# Altium schematic symbol library Smart_Podium.SchLib: 42 symbols
Pins are listed as number, name and electrical type; pins without a type are passive.

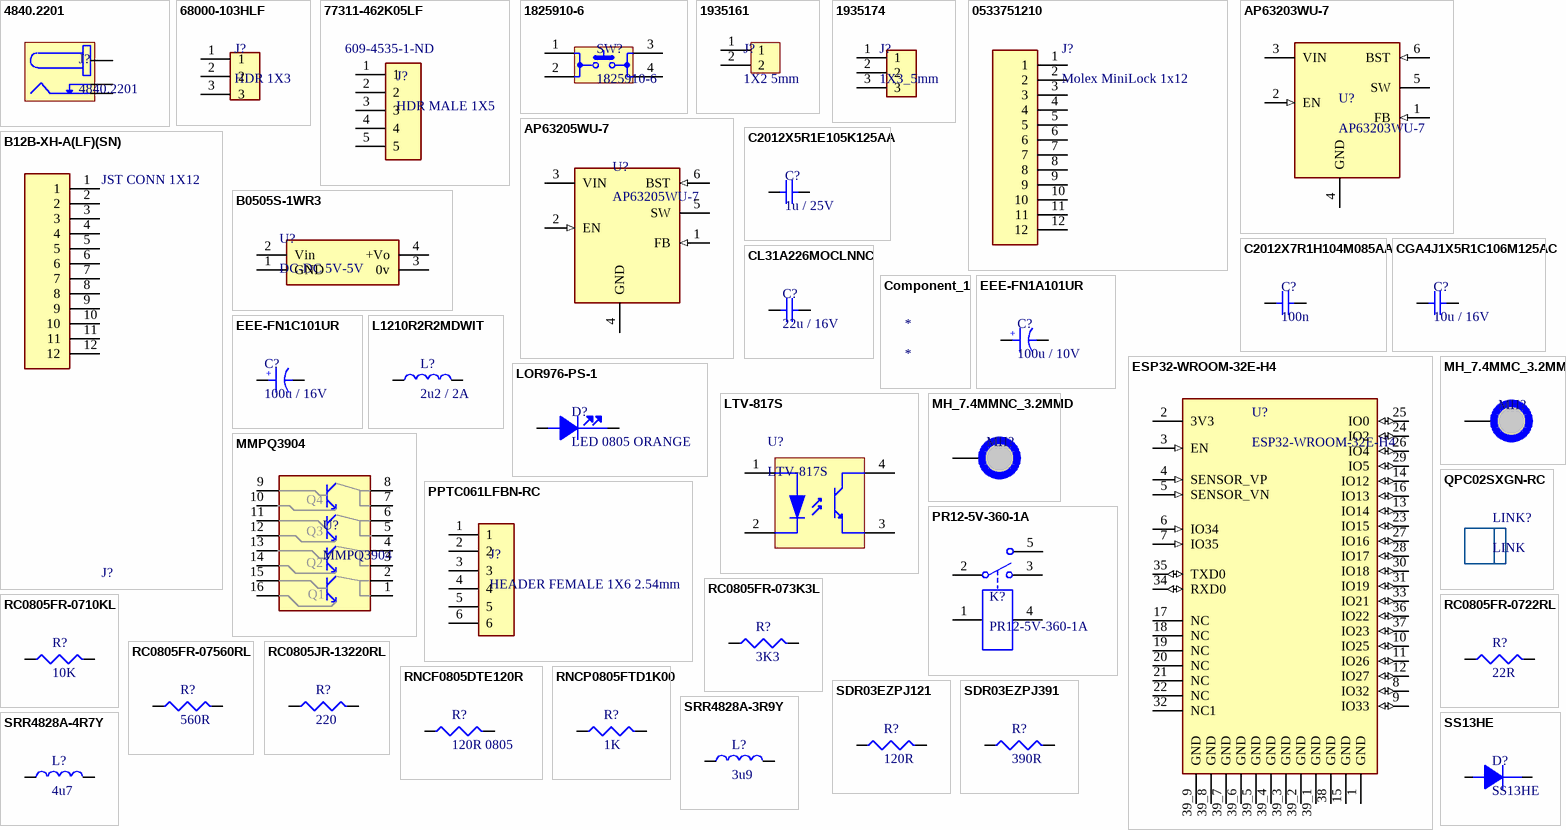
[diagram p0: symbols 4840.2201 to SS13HE]

## 4840.2201
designator J?
DC Connector Socket 6x2mm 2-Pole 12VDC 0.5A 500VDC Dielectric Solder Term PCB Mt; Manufacturer: Schurter; Number of Terminals/Pins: 3; Gender: Male; Shielding: Unshielded; Current Rating: 500mA; Voltage Rating: 12V; Number of Ports: 1; Connector Type: Jack; Pin Diameter: 2mm; Supplier 1: Digi-Key; Manufacturer Part Number: 4840.2201; RoHS: Yes; Category: Connectors; Stock 1: 9153; Pricing 1: 1=1.82000, 50=1.67900, 100=1.41120 (USD); Mounting Technology: Through Hole; Color: Black; Contact Material: Copper Alloy; Housing Material: PC; Weight: 0.007125oz; Contact Plating: Tin; Housing Color: Black; Termination: Solder; Number of Contacts: 3; Orientation: Right Angle; Package Quantity: 500; Series: 4840; Length: 9mm; Width: 9mm; Depth: 14.5mm; Radiation Hardening: No; Lead Free: Lead Free; RoHS Compliant: Yes; ComponentLink1URL: https://datasheet.ciiva.com/26837/getdatasheetpartid-572408-26837414.pdf?src-supplier=Verical; ComponentLink1Description: https://datasheet.ciiva.com/26837/getdatasheetpartid-572408-26837414.pdf?src-supplier=Verical; ComponentLink2URL: https://datasheet.ciiva.com/16318/typ-4840-1200-16318967.pdf?src-supplier=Future+Electronics; ComponentLink2Description: https://datasheet.ciiva.com/16318/typ-4840-1200-16318967.pdf?src-supplier=Future+Electronics; ComponentLink3URL: https://datasheet.ciiva.com/12342/typ-4840-2201-65401-12342879.pdf?src-supplier=Mouser; ComponentLink3Description: https://datasheet.ciiva.com/12342/typ-4840-2201-65401-12342879.pdf?src-supplier=Mouser; ComponentLink4URL: https://datasheet.ciiva.com/391/typ-4840-2201-391834.pdf?src-supplier=Digi-Key; ComponentLink4Description: https://datasheet.ciiva.com/391/typ-4840-2201-391834.pdf?src-supplier=Digi-Key; Supplier Part Number 1: 486-3381-ND
footprint DC_JACK
pins: 1, 2, 3

## 68000-103HLF
designator J?, comment HDR 1X3
Conn Unshrouded Header HDR 3 POS 2.54mm Solder ST Top Entry Thru-Hole BergStik® Automotive Bulk; Manufacturer: Amphenol ICC / FCI; Manufacturer Part Number: 68000-103HLF; Supplier 1: Digi-Key; RoHS: No; Category: Headers and Wire Housings; ComponentLink1URL: https://datasheet.ciiva.com/46392/1914865-46392021.pdf?src-supplier=Element14; ComponentLink1Description: https://datasheet.ciiva.com/46392/1914865-46392021.pdf?src-supplier=Element14; Supplier Part Number 1: 609-3461-ND
footprint HDR_1x3_2.54mm
pins: 1, 2, 3

## 77311-462K05LF
designator J?, comment HDR MALE 1X5  Supplier Part Number 1: 609-4535-1-ND
Conn Header Vert 5POS 2.54MM; Manufacturer: Amphenol Communications Solutions; Manufacturer Part Number: 77311-462K05LF; Supplier 1: Digi-Key; RoHS: No; Category: Connectors; Stock 1: 5335; Pricing 1: 1=1.00000, 10=0.84300, 100=0.75660, 500=0.61902 (USD)
footprint Header_Male_1x5_2.54mm
pins: 1, 2, 3, 4, 5

## 1825910-6
designator SW?
Switch Tactile OFF (ON) SPST Round Button PC Pins 0.05A 24VDC 1.57N Thru-Hole Loose; Manufacturer: TE Connectivity Alcoswitch; Mechanical Life: 100000Cycles; Actuator Material: PBT; Actuator Color: Black; Operating Force: 160gf; Max Voltage Rating (DC): 24V; Contact Resistance: 100mR; Illumination Type: Non-Illuminated,Illuminated; Switch Travel: 0.25mm; Contact Current Rating: 50mA; Switch Function: Off-Mom; Actuator Type: Standard; Actuator Length: 0.055inch; Supplier 1: Digi-Key; Manufacturer Part Number: 1825910-6; RoHS: Yes; Category: Pushbutton Switches; Stock 1: 112137; Pricing 1: 1=0.13000, 10=0.12500, 25=0.11840, 100=0.10780, 250=0.10132, 750=0.09268, 1500=0.07759, 3000=0.07544, 5250=0.07113 (USD); Mount: Through Hole; Contact Material: Copper Alloy; Contact Plating: Silver; Min Operating Temperature: -35°C; Max Operating Temperature: 85°C; Throw Configuration: SPST; Package Quantity: 750; Packaging: Loose Piece; Termination: PC Pins; Electrical Life: 100000Cycles; Orientation: Straight; Type: Switch; Series: FSMJ; Max Current Rating: 50mA; Length: 5.99mm; RoHS Compliant: Yes; ELV: Compliant; Lead Free: Lead Free; ComponentLink1URL: https://datasheet.ciiva.com/30199/1825910-6rqpn1825910-6-30199520.pdf?src-supplier=Onlinecomponents.com; ComponentLink1Description: https://datasheet.ciiva.com/30199/1825910-6rqpn1825910-6-30199520.pdf?src-supplier=Onlinecomponents.com; ComponentLink2URL: https://datasheet.ciiva.com/15184/getdatasheetpartid-395915-15184509.pdf?src-supplier=Verical; ComponentLink2Description: https://datasheet.ciiva.com/15184/getdatasheetpartid-395915-15184509.pdf?src-supplier=Verical; Supplier Part Number 1: 450-1650-ND
footprint 1825910-6
pins: 1, 2, 3, 4

## 1935161
designator J?, comment 1X2 5mm
Conn PC Terminal Block 2 POS 5mm Solder ST Thru-Hole 17.5A; Manufacturer: Phoenix Contact; Manufacturer Part Number: 1935161; Number of Contacts: 2; Max Current Rating: 16A; Max Supply Voltage: 250V; Number of Levels: 1; Current: 18A; Voltage: 300V; Voltage Rating (DC): 320V; Connector Type: Screw; Wire/Cable Gauge: 26AWG; Wire Gauge (Min): 12AWG; Approvals: UL; Supplier 1: Digi-Key; RoHS: Yes; Category: Terminal Blocks; Stock 1: 237293; Pricing 1: 1=0.54000, 10=0.47200, 50=0.45100, 100=0.43870, 250=0.41000, 500=0.37720, 1000=0.36550 (USD); Mounting Technology: Through Hole; Pins: 2; Contact Material: Copper,Tin; Housing Material: Polyamide; Color: Green; Weight: 0.067021oz; Material: Nylon; Housing Color: Green; Insulation Material: Nylon; Current Rating: 17.5A; Number of Rows: 1; Termination: Solder; Orientation: Straight; Voltage Rating: 250V; Package Quantity: 250; Packaging: Bulk; Number of Poles: 2; Number of Positions: 2; Number of Positions Per Level: 2; Number of Circuits: 2; Series: COMBICON PT; Number of Ways: 2; Length: 9mm; Width: 14.9mm; Height: 11.3mm; Wire Gauge (Max): 26AWG; Depth: 9mm; Pitch: 5mm; Radiation Hardening: No; RoHS Compliant: Yes; Lead Free: Lead Free; Flammability Rating: UL94 V-0; ComponentLink1URL: https://datasheet.ciiva.com/16047/1935161-16047247.pdf?src-supplier=Onlinecomponents.com; ComponentLink1Description: https://datasheet.ciiva.com/16047/1935161-16047247.pdf?src-supplier=Onlinecomponents.com; ComponentLink2URL: https://datasheet.ciiva.com/15169/getdatasheetpartid-177903-15169663.pdf?src-supplier=Verical; ComponentLink2Description: https://datasheet.ciiva.com/15169/getdatasheetpartid-177903-15169663.pdf?src-supplier=Verical; ComponentLink3URL: https://datasheet.ciiva.com/824/combiconcompact5-0mmseries-824222.pdf?src-supplier=Digi-Key; ComponentLink3Description: https://datasheet.ciiva.com/824/combiconcompact5-0mmseries-824222.pdf?src-supplier=Digi-Key; Supplier Part Number 1: 277-1667-ND
footprint SCREW_CONN_5MM
pins: 1, 2

## 1935174
designator J?, comment 1X3_5mm
Terminal Block Header 3 Position Top Screw 0.197" (5.00mm) PC Pins; Manufacturer: Phoenix Contact; Manufacturer Part Number: 1935174; Number of Contacts: 3; Max Current Rating: 16A; Voltage Rating: 250V; Current Rating: 17.5A; Number of Levels: 1; Current: 18A; Voltage: 300V; Voltage Rating (DC): 320V; Wire Gauge (Max): 26AWG; Wire Gauge (Min): 12AWG; Pitch: 5mm; Approvals: UL,VDE,CB,EAC; Supplier 1: Digi-Key; RoHS: Yes; Category: Terminal Blocks; Stock 1: 144266; Pricing 1: 1=0.75000, 10=0.65600, 50=0.62700, 100=0.60990, 250=0.57000, 500=0.52440, 1000=0.51000 (USD); Mount: Through Hole; Number of Pins: 3; Contact Material: Copper,Tin; Color: Green; Housing Material: Polyamide; Weight: 0.100531oz; Material: Nylon; Housing Color: Green; Insulation Material: Nylon; Termination: Solder; Packaging: Bulk; Number of Rows: 1; Max Supply Voltage: 250V; Number of Positions: 3; Orientation: Straight; Series: COMBICON PT; Package Quantity: 250; Number of Poles: 3; Number of Positions Per Level: 3; Number of Circuits: 3; Number of Ways: 3; Length: 9mm; Width: 15mm; Height: 11.3mm; Depth: 9mm; Wire/Cable Gauge: 26AWG; Stripping Length: 5mm; Radiation Hardening: No; RoHS Compliant: Yes; Lead Free: Lead Free; Flammability Rating: UL94 V-0; ComponentLink1URL: https://datasheet.ciiva.com/16047/1935174-16047249.pdf?src-supplier=Onlinecomponents.com; ComponentLink1Description: https://datasheet.ciiva.com/16047/1935174-16047249.pdf?src-supplier=Onlinecomponents.com; ComponentLink2URL: https://datasheet.ciiva.com/15169/getdatasheetpartid-212213-15169949.pdf?src-supplier=Verical; ComponentLink2Description: https://datasheet.ciiva.com/15169/getdatasheetpartid-212213-15169949.pdf?src-supplier=Verical; ComponentLink3URL: https://datasheet.ciiva.com/823/combiconcompact5-0mmseries-823761.pdf?src-supplier=Digi-Key; ComponentLink3Description: https://datasheet.ciiva.com/823/combiconcompact5-0mmseries-823761.pdf?src-supplier=Digi-Key; ComponentLink4URL: https://datasheet.ciiva.com/29218/744167-da-01-en-printklemme-pt-1-5-3-5-0-h-29218252.pdf?src-supplier=Conrad; ComponentLink4Description: https://datasheet.ciiva.com/29218/744167-da-01-en-printklemme-pt-1-5-3-5-0-h-29218252.pdf?src-supplier=Conrad; Supplier Part Number 1: 277-1578-ND
footprint SSCREW_CONN_5MM_1X3
pins: 1, 2, 3

## 0533751210
designator J?, comment Molex MiniLock 1x12
2.50mm Pitch Mini-Lock Wire-to-Board Header Vertical Friction and Positive Lock 12 Circuits; Manufacturer Part Number: 0533751210; Supplier 1: Digi-Key; Manufacturer: Molex; RoHS: Yes; Category: Uncategorized; Stock 1: 46833; Pricing 1: 1=0.91000, 10=0.75100, 100=0.62620, 1000=0.50096, 5000=0.43834, 10000=0.41642 (USD); ComponentLink1URL: https://datasheet.ciiva.com/2943/533750310-sd-2943383.pdf?src-supplier=Digi-Key; ComponentLink1Description: https://datasheet.ciiva.com/2943/533750310-sd-2943383.pdf?src-supplier=Digi-Key
footprint MOLEX-MINILOCK-12X1-2.5MM
pins: 1, 2, 3, 4, 5, 6, 7, 8, 9, 10, 11, 12

## AP63203WU-7
designator U?
AP63203 Series 3.3 V 2 A SMT Fixed Low IQ Synchronous Buck - TSOT-26; Manufacturer: Diodes; Supplier 1: Digi-Key; Manufacturer Part Number: AP63203WU-7; RoHS: Yes; Category: Voltage Regulators - Switching; Stock 1: 45437; Pricing 1: 1=0.91000, 10=0.79900, 25=0.75040, 100=0.61250, 250=0.56896, 500=0.48420, 1000=0.38737 (USD); Supplier Part Number 1: AP63203WU-7DICT-ND
footprint FP-TSOT26-MFG
pins: 1 FB (in), 2 EN (in), 3 VIN (power), 4 GND (power), 5 SW (power), 6 BST (in)

## AP63205WU-7
designator U?
AP63205 Series 32 V 2 A 1.1 MHz Synchronous Buck Converter -TSOT-26; Manufacturer: Diodes; Supplier 1: Digi-Key; Manufacturer Part Number: AP63205WU-7; RoHS: Yes; Category: Voltage Regulators - Switching; Stock 1: 147466; Pricing 1: 1=0.91000, 10=0.79900, 25=0.75040, 100=0.61250, 250=0.56896, 500=0.48420, 1000=0.38737 (USD); Supplier Part Number 1: AP63205WU-7DIDKR-ND
footprint FP-TSOT26-MFG
pins: 1 FB (in), 2 EN (in), 3 VIN (power), 4 GND (power), 5 SW (power), 6 BST (in)

## B12B-XH-A(LF)(SN)
designator J?, comment JST CONN 1X12
CONN HEADER VERT 12POS 2.5MM; Manufacturer Part Number: B12B-XH-A(LF)(SN); Mated Stacking Heights: 9.8mm; Voltage Rating: 250V; Number of Positions: 12; Flammability Rating: UL94 V-0; Fastening Type: Detent; Contact Type: Male Pin; Insulation Color: Natural; Contact Material: Brass; Min Operating Temperature: -25°C; Contact Shape: Square; Height: 0.5inch; Connector Type: Header; Max Operating Temperature: 85°C; Number of Rows: 1; Series: XH; Insulation Material: Nylon; Contact Finish - Mating: TIN; Mount: Through Hole; Width: 0.5inch; Weight: 0.0625lb; Termination: Press-Fit; Length: 1.5inch; Packaging: Bulk
footprint FP-B12B-XH-A_LF_SN-MFG
pins: 1, 2, 3, 4, 5, 6, 7, 8, 9, 10, 11, 12

## B0505S-1WR3
designator U?, comment DC-DC 5V-5V
1W, i/p: 4.5V ~ 5.5V, single o/p: 5V, SIP; Manufacturer: MORNSUN; Manufacturer Part Number: B0505S-1WR3; Supplier 1: Digi-Key; RoHS: Yes; Category: Board Mount Modules; Stock 1: 49202; Pricing 1: 1=5.23000, 5=5.15200, 10=5.07800, 25=4.92840, 50=4.77900, 100=4.62970, 250=4.48032, 500=4.18162 (USD); Supplier Part Number 1: 2725-B0505S-1WR3-ND
footprint DC-DC isolator 1x4 pins
pins: 1 GND, 2 Vin, 3 0v, 4 +Vo

## C2012X5R1E105K125AA
designator C?, comment 1u / 25V
CAP CER 1UF 25V X5R 0805; Manufacturer: TDK; Manufacturer Part Number: C2012X5R1E105K125AA; Dielectric Material: Ceramic; Tolerance: 10%; Supplier 1: Digi-Key; RoHS: Yes; Category: Ceramic Capacitors; Stock 1: 84647; Pricing 1: 1=0.21000, 10=0.14500, 50=0.08720, 100=0.07370, 500=0.05042, 1000=0.04460 (USD); Mount: Surface Mount; Case/Package: 0805; Number of Pins: 2; Case Code (Metric): 2012; Case Code (Imperial): 0805; Weight: 0.000194oz; Min Operating Temperature: -55°C; Max Operating Temperature: 85°C; Capacitance: 1uF; Voltage Rating: 25V; Packaging: Tape and Reel; Voltage Rating (DC): 25V; Dielectric: X5R; Termination: SMD/SMT; Construction: Flat; Package Quantity: 2000; Resistor Type: Ceramic; Voltage: 25V; Series: C; Length: 2mm; Width: 0.049inch; Height: 1.25mm; Depth: 1.25mm; Thickness: 0.057inch; Radiation Hardening: No; Lead Free: Lead Free; RoHS Compliant: Yes; Reach SVHC Compliant: Yes; ComponentLink1URL: https://datasheet.ciiva.com/11787/0900766b80c1bb00-11787608.pdf?src-supplier=RSComponents; ComponentLink1Description: https://datasheet.ciiva.com/11787/0900766b80c1bb00-11787608.pdf?src-supplier=RSComponents; ComponentLink2URL: https://datasheet.ciiva.com/16449/e412-c-16449595.pdf?src-supplier=Future+Electronics; ComponentLink2Description: https://datasheet.ciiva.com/16449/e412-c-16449595.pdf?src-supplier=Future+Electronics; ComponentLink3URL: https://datasheet.ciiva.com/28602/1744655-28602171.pdf?src-supplier=Element14; ComponentLink3Description: https://datasheet.ciiva.com/28602/1744655-28602171.pdf?src-supplier=Element14; ComponentLink4URL: https://datasheet.ciiva.com/15192/getdatasheetpartid-726707-15192140.pdf?src-supplier=Verical; ComponentLink4Description: https://datasheet.ciiva.com/15192/getdatasheetpartid-726707-15192140.pdf?src-supplier=Verical; Supplier Part Number 1: 445-1419-1-ND
footprint C0805
pins: 1, 2

## C2012X7R1H104M085AA
designator C?, comment 100n
C Series 0805 0.1 uF 50 V ±20 % Tolerance X7R SMT Multilayer Ceramic Capacitor; Manufacturer: TDK; Manufacturer Part Number: C2012X7R1H104M085AA; Capacitance: 100nF; Voltage Rating: 50V; Tolerance: 20%; Supplier 1: Digi-Key; RoHS: Yes; Category: Ceramic Capacitors; Stock 1: 3401; Pricing 1: 1=0.13000, 10=0.09500, 50=0.05400, 100=0.04480, 500=0.03142, 1000=0.02601 (USD); Mount: Surface Mount; Case/Package: 0805; Number of Pins: 2; Case Code (Metric): 2012; Case Code (Imperial): 0805; Weight: 0.000194oz; Dielectric Material: Ceramic; Min Operating Temperature: -55°C; Max Operating Temperature: 125°C; Packaging: Tape and Reel; Voltage Rating (DC): 50V; Termination: SMD/SMT; Construction: Flat; Package Quantity: 1; Dielectric: X7R; Resistor Type: Ceramic; Series: C; Length: 2mm; Width: 0.049inch; Height: 0.85mm; Thickness: 0.037inch; Depth: 1.25mm; RoHS Compliant: Yes; Lead Free: Lead Free; ComponentLink1URL: https://datasheet.ciiva.com/6256/tdkmlcccaprange-6256917.pdf?src-supplier=Digi-Key; ComponentLink1Description: https://datasheet.ciiva.com/6256/tdkmlcccaprange-6256917.pdf?src-supplier=Digi-Key; ComponentLink2URL: https://datasheet.ciiva.com/6256/tdkmlcccaprange-6256919.pdf?src-supplier=Digi-Key; ComponentLink2Description: https://datasheet.ciiva.com/6256/tdkmlcccaprange-6256919.pdf?src-supplier=Digi-Key; Supplier Part Number 1: 445-7535-1-ND
footprint C0805
pins: 1, 2

## CGA4J1X5R1C106M125AC
designator C?, comment 10u / 16V
Cap Ceramic 10uF 16V X5R 20% SMD 0805 85°C Blister Plastic T/R; Manufacturer: TDK; Manufacturer Part Number: CGA4J1X5R1C106M125AC; Supplier 1: Digi-Key; RoHS: Yes; Category: Ceramic Capacitors; Stock 1: 291153; Pricing 1: 1=0.44000, 10=0.30300, 50=0.21200, 100=0.18180, 500=0.13636, 1000=0.11514 (USD); Mount: Surface Mount; Case/Package: 0805; Case Code (Metric): 2012; Case Code (Imperial): 0805; Weight: 0.000194oz; Min Operating Temperature: -55°C; Max Operating Temperature: 85°C; Package Quantity: 2000; Packaging: Tape and Reel; Capacitance: 10uF; Tolerance: 20%; Voltage Rating: 16V; Dielectric: X5R; Termination: SMD/SMT; Voltage Rating (DC): 16V; Series: CGA; Length: 0.079inch; Width: 0.049inch; Height: 1.25mm; Thickness: 0.057inch; Ratings: AEC-Q200; Lead Free: Lead Free; RoHS Compliant: Yes; ComponentLink1URL: https://product.tdk.com/info/en/catalog/datasheets/mlcc_automotive_general_en.pdf?src-supplier=Digi-Key; ComponentLink1Description: https://product.tdk.com/info/en/catalog/datasheets/mlcc_automotive_general_en.pdf?src-supplier=Digi-Key; ComponentLink2URL: https://product.tdk.com/info/en/documents/chara_sheet/CGA4J1X5R1C106M125AC.pdf?src-supplier=Digi-Key; ComponentLink2Description: https://product.tdk.com/info/en/documents/chara_sheet/CGA4J1X5R1C106M125AC.pdf?src-supplier=Digi-Key; ComponentLink3URL: http://product.tdk.com/capacitor/mlcc/detailed_information.php?lang=en&ref=jp&part_no=CGA4J1X5R1C106M125AC&src-supplier=Mouser; ComponentLink3Description: http://product.tdk.com/capacitor/mlcc/detailed_information.php?lang=en&ref=jp&part_no=CGA4J1X5R1C106M125AC&src-supplier=Mouser; ComponentLink4URL: http://product.tdk.com/en/catalog/datasheets/mlcc_automotive_general_en.pdf?src-supplier=Avnet; ComponentLink4Description: http://product.tdk.com/en/catalog/datasheets/mlcc_automotive_general_en.pdf?src-supplier=Avnet; Supplier Part Number 1: 445-12654-1-ND
footprint C0805
pins: 1, 2

## CL31A226MOCLNNC
designator C?, comment 22u / 16V
Cap Ceramic 22uF 16V X5R 20% SMD 1206 85°C Cardboard T/R; Manufacturer: Samsung; Manufacturer Part Number: CL31A226MOCLNNC; Supplier 1: Digi-Key; RoHS: Yes; Category: Ceramic Capacitors; Stock 1: 605129; Pricing 1: 1=0.23000, 10=0.16000, 50=0.10640, 100=0.09040, 500=0.06382, 1000=0.05585 (USD); Mount: Surface Mount; Case/Package: 1206; Case Code (Metric): 3216; Case Code (Imperial): 1206; Min Operating Temperature: -55°C; Max Operating Temperature: 85°C; Packaging: Tape and Reel; Tolerance: 20%; Capacitance: 22uF; Package Quantity: 1; Voltage Rating: 16V; Dielectric: X5R; Series: CL; Construction: Flat; Voltage: 16V; Length: 3.2mm; Width: 0.063inch; Height: 0.85mm; Thickness: 0.037inch; Depth: 1.6mm; Radiation Hardening: No; Lead Free: Lead Free; RoHS Compliant: Yes; ComponentLink1URL: https://datasheet.ciiva.com/25793/cl31a226moclnnc-25793126.pdf?src-supplier=Digi-Key; ComponentLink1Description: https://datasheet.ciiva.com/25793/cl31a226moclnnc-25793126.pdf?src-supplier=Digi-Key; ComponentLink2URL: https://datasheet.ciiva.com/26838/getdatasheetpartid-353197-26838865.pdf?src-supplier=Verical; ComponentLink2Description: https://datasheet.ciiva.com/26838/getdatasheetpartid-353197-26838865.pdf?src-supplier=Verical; Supplier Part Number 1: 1276-2728-1-ND
footprint C0805
pins: 1, 2

## Component_1
designator *

## EEE-FN1A101UR
designator C?, comment 100u / 10V
Cap Aluminum 100uF 10V 20% Cylindrical 0.7 Ohm 160mA 2000 hr 105°C Emboss T/R; Manufacturer: Panasonic; Manufacturer Part Number: EEE-FN1A101UR; Supplier 1: Digi-Key; RoHS: No; Category: Aluminum Electrolytic Capacitors; Stock 1: 319; Pricing 1: 1=0.55000, 10=0.38600, 50=0.29220, 100=0.25450, 500=0.18850 (USD); Supplier Part Number 1: 10-EEE-FN1A101URCT-ND
footprint C_ALU_C_SIZE
pins: 1, 2
text: +

## EEE-FN1C101UR
designator C?, comment 100u / 16V
Cap Aluminum 100uF 16V 20% Cylindrical 0.7 Ohm 160mA 2000 hr 105°C Emboss T/R; Manufacturer: Panasonic; Manufacturer Part Number: EEE-FN1C101UR; Supplier 1: Digi-Key; RoHS: No; Category: Capacitors; Stock 1: 1049; Pricing 1: 1=0.55000, 10=0.38600, 50=0.29220, 100=0.25450, 500=0.18850 (USD); Supplier Part Number 1: 10-EEE-FN1C101URCT-ND
footprint C_ALU_C_SIZE
pins: 1, 2
text: +

## ESP32-WROOM-32E-H4
designator U?
Rx Txrx Mod Wifi Trace Ant SMD; Manufacturer: Espressif Systems; Supplier 1: Digi-Key; Manufacturer Part Number: ESP32-WROOM-32E-H4; RoHS: No; Category: Uncategorized; Stock 1: 12159; Pricing 1: 1=3.15000 (USD); Supplier Part Number 1: 1965-ESP32-WROOM-32E-H4CT-ND
footprint XCVR_ESP32-WROOM-32E_(4MB_HIGH_TEMP)
pins: 1 GND (power), 2 3V3 (power), 3 EN (in), 4 SENSOR_VP (in), 5 SENSOR_VN (in), 6 IO34 (in), 7 IO35 (in), 8 IO32 (io), 9 IO33 (io), 10 IO25 (io), 11 IO26 (io), 12 IO27 (io), 13 IO14 (io), 14 IO12 (io), 15 GND (power), 16 IO13 (io), 17 NC, 18 NC, 19 NC, 20 NC, 21 NC, 22 NC, 23 IO15 (io), 24 IO2 (io), 25 IO0 (io), 26 IO4 (io), 27 IO16 (io), 28 IO17 (io), 29 IO5 (io), 30 IO18 (io), 31 IO19 (io), 32 NC1, 33 IO21 (io), 34 RXD0 (io), 35 TXD0 (io), 36 IO22 (io), 37 IO23 (io), 38 GND (power), 39_1 GND (power), 39_2 GND (power), 39_3 GND (power), 39_4 GND (power), 39_5 GND (power), 39_6 GND (power), 39_7 GND (power), 39_8 GND (power), 39_9 GND (power)

## L1210R2R2MDWIT
designator L?, comment 2u2 / 2A
Inductor RF Chip Wirewound 2.2uH 20% 100KHz 1.13A 0.104Ohm DCR 1210 T/R; Manufacturer: KEMET; Manufacturer Part Number: L1210R2R2MDWIT; Core Material: Ferrite; Shielding: Unshielded; Self Resonant Frequency: 190MHz; DC Resistance (DCR): 80mR; Supplier 1: Farnell; RoHS: Yes; Category: Fixed Inductors; Stock 1: 12; Pricing 1: 1=0.29100, 50=0.27000, 100=0.24900, 250=0.23600, 500=0.22300, 1000=0.16900, 5000=0.16400, 10000=0.15800 (GBP); Mount: Surface Mount; Case/Package: 1210; Case Code (Metric): 3225; Case Code (Imperial): 1210; Min Operating Temperature: -40°C; Max Operating Temperature: 105°C; Tolerance: 20%; Inductance: 2.2uH; Max DC Current: 2A; Package Quantity: 1000; Current Rating: 2A; Packaging: Tape and Reel; Inductance Tolerance: 20%; Resistor Type: Wirewound,Ceramic; Test Frequency: 100kHz; Termination: SMD/SMT; DC Current: 1.13A; Series: L-DWI; Length: 3.2mm; Width: 2.5mm; Height: 2.5mm; Height - Seated (Max): 0.106inch; Depth: 2.7mm; Radiation Hardening: No; Reach SVHC Compliant: Yes; Military Standard: Not; RoHS Compliant: Yes; ComponentLink1URL: https://datasheet.ciiva.com/4957/f3115-4957838.pdf?src-supplier=Mouser; ComponentLink1Description: https://datasheet.ciiva.com/4957/f3115-4957838.pdf?src-supplier=Mouser; ComponentLink2URL: https://datasheet.ciiva.com/6691/f3115-6691487.pdf?src-supplier=Digi-Key; ComponentLink2Description: https://datasheet.ciiva.com/6691/f3115-6691487.pdf?src-supplier=Digi-Key; ComponentLink3URL: https://datasheet.ciiva.com/8512/f3115-8512543.pdf?src-supplier=Avnet; ComponentLink3Description: https://datasheet.ciiva.com/8512/f3115-8512543.pdf?src-supplier=Avnet; ComponentLink4URL: https://datasheet.ciiva.com/22685/27262-22685038.pdf?src-supplier=Element14; ComponentLink4Description: https://datasheet.ciiva.com/22685/27262-22685038.pdf?src-supplier=Element14; Supplier Part Number 1: 3638976
footprint C1210_IND
pins: 1, 2

## LOR976-PS-1
designator D?, comment LED 0805 ORANGE
Orange LED 0805 Vf = 2V, 20mA; Manufacturer: Osram Opto; Manufacturer Part Number: LOR976-PS-1; Lens Color: White; Viewing Angle: 160°; Lens Style: Flat,Rectangular,Diffused,Colorless; Forward Current: 25mA; Luminous Intensity: 162.5mcd; Dominant Wavelength: 606nm; Luminous Flux: 0.735lm; Reverse Voltage: 12V; Lens Transparency: Diffused; Number of LEDs: 1; Lens Size: 1.25mm; Supplier 1: Arrow Electronics; RoHS: Yes; Category: LEDs; Stock 1: 2418; Pricing 1: 1=0.27100, 10=0.15400, 25=0.15270, 100=0.07290, 250=0.07210, 500=0.06600, 1000=0.05150 (USD); Mount: Surface Mount; Case/Package: 0805; Number of Pins: 2; Color: Orange; Case Code (Metric): 2012; Case Code (Imperial): 0805; Contact Plating: Tin,Matte; Min Operating Temperature: -30°C; Max Operating Temperature: 85°C; Packaging: Tape and Reel; Forward Voltage: 2V; Test Current: 20mA; Package Quantity: 16000; Illumination Color: Orange; Series: CHIPLED 0805; Length: 2mm; Width: 1.25mm; Height: 0.9mm; Radiation Hardening: No; RoHS Compliant: Yes; ComponentLink1URL: https://datasheet.ciiva.com/2119/00078881-0-2119287.pdf?src-supplier=Digi-Key; ComponentLink1Description: https://datasheet.ciiva.com/2119/00078881-0-2119287.pdf?src-supplier=Digi-Key; ComponentLink2URL: https://datasheet.ciiva.com/2119/00078881-0-2119286.pdf?src-supplier=Digi-Key; ComponentLink2Description: https://datasheet.ciiva.com/2119/00078881-0-2119286.pdf?src-supplier=Digi-Key; ComponentLink3URL: https://datasheet.ciiva.com/2119/00078881-0-2119288.pdf?src-supplier=Digi-Key; ComponentLink3Description: https://datasheet.ciiva.com/2119/00078881-0-2119288.pdf?src-supplier=Digi-Key; Supplier Part Number 1: LO R976-PS-1
footprint LED_0805
pins: 1 Cathode, 2 Anode

## LTV-817S
designator U?
Photocoupler - Phototransistor Output, 35 V VCEO, -50 to 110 degC, 4-Pin SMD, RoHS, Tape and Reel; Manufacturer: Lite-On; Collector Current (DC): 0.05A; Collector-Emitter Voltage: 35V; Fall Time: 18000ns; Reverse Breakdown Voltage: 6V; Forward Voltage: 1.4V; Output Type: DC; Forward Current: 50mA; Isolation Voltage: 5000V; Number of Elements: 1; Rad Hardened: No; Power Dissipation: 0.2W; Current Transfer Ratio: 600%; DELETED: Compliant; Collector-Emitter Saturation Voltage: 0.2V; Datasheet URL: https://datasheet.ciiva.com/15118/getdatasheetpartid-147501-15118828.pdf; Package Type: PDIPSMD; Collector Current (DC) (Max): 0.05A; Manufacturer URL: http://www.us.liteon.com/; Rise Time: 18000ns; Operating Temperature Classification: Commercial; Output Device: Transistor; Input Type: DC; Datasheet Version: Jan-10; Operating Temp Range: -30Cto100C; Mounting: SurfaceMount; Pin Count: 4; Manufacturer Part Number: LTV-817S
footprint LTST-LTV-817S-4_V (SMD, 4-Leads, Body 7x5.1mm, Pitch 2.54mm)
pins: 1 ANODE, 2 CATHODE, 3 EMITTER, 4 COLLECTOR

## MH_7.4MMC_3.2MMD
designator MH?  (value not drawn)  (no BOM)
Mounting Hole 7.4mm Diameter, 3.2mm Drill
footprint MH_7.4MMC_3.2MMD
pins: 1

## MH_7.4MMNC_3.2MMD
designator MH?  (value not drawn)  (no BOM)
Mounting Hole Non Copper 7.4mm Diameter, 3.2mm Drill NPTH
footprint MH_7.4MMC_3.2MMD_NON_COPPER_NPTH
pins: 1

## MMPQ3904
designator U?
MMPQ39 Series NPN 1 W 40 V 200 mA General Purpose Transistor - SOIC-16; Manufacturer: ON Semiconductor / Fairchild; Max Power Dissipation: 1W; Collector Emitter Voltage (VCEO): 40V; Max Collector Current: 200mA; hFE Min: 75; Collector Base Voltage (VCBO): 60V; Emitter Base Voltage (VEBO): 6V; Gain Bandwidth Product: 250MHz; Collector Emitter Saturation Voltage: 100mV; Collector-emitter Voltage-Max: 300mV; Number of Elements: 4; Supplier 1: Digi-Key; Manufacturer Part Number: MMPQ3904; RoHS: Yes; Category: BJTs; Stock 1: 17276; Pricing 1: 1=2.10000, 10=1.88300, 100=1.51340, 500=1.24340, 1000=1.03025 (USD); Mounting Technology: Surface Mount; Case/Package: SOIC; Pins: 16; Weight: 0.143g; Min Operating Temperature: -55°C; Max Operating Temperature: 150°C; Packaging: Tape and Reel; Package Quantity: 48; Polarity: NPN; Collector Emitter Breakdown Voltage: 40V; Voltage Rating (DC): 40V; Current Rating: 200mA; Transition Frequency: 250MHz; Max Breakdown Voltage: 40V; Power Dissipation: 1W; Series: -; Frequency: 250MHz; Clock Frequency: 250MHz; Length: 10mm; Width: 4mm; Height: 1.5mm; Radiation Hardening: No; RoHS Compliant: Yes; Lead Free: Lead Free; Reach SVHC Compliant: Yes; ComponentLink1URL: https://datasheet.ciiva.com/4722/mmpq3904-191413-4722320.pdf?src-supplier=Mouser; ComponentLink1Description: https://datasheet.ciiva.com/4722/mmpq3904-191413-4722320.pdf?src-supplier=Mouser; ComponentLink2URL: https://datasheet.ciiva.com/1193/1727651-1193875.pdf?src-supplier=Element14; ComponentLink2Description: https://datasheet.ciiva.com/1193/1727651-1193875.pdf?src-supplier=Element14; ComponentLink3URL: https://datasheet.ciiva.com/969/mmpq3904-d-969526.pdf?src-supplier=Digi-Key; ComponentLink3Description: https://datasheet.ciiva.com/969/mmpq3904-d-969526.pdf?src-supplier=Digi-Key; ComponentLink4URL: https://datasheet.ciiva.com/15139/getdatasheetpartid-95884-15139210.pdf?src-supplier=Verical; ComponentLink4Description: https://datasheet.ciiva.com/15139/getdatasheetpartid-95884-15139210.pdf?src-supplier=Verical; ComponentLink5URL: https://datasheet.ciiva.com/6362/ffb3904-6362790.pdf?src-supplier=Digi-Key; ComponentLink5Description: https://datasheet.ciiva.com/6362/ffb3904-6362790.pdf?src-supplier=Digi-Key; ComponentLink6URL: https://datasheet.ciiva.com/16776/ffb3904-16776279.pdf?src-supplier=Future+Electronics; ComponentLink6Description: https://datasheet.ciiva.com/16776/ffb3904-16776279.pdf?src-supplier=Future+Electronics; ComponentLink7URL: https://datasheet.ciiva.com/11197/fmb3904-11197433.pdf?src-supplier=Avnet; ComponentLink7Description: https://datasheet.ciiva.com/11197/fmb3904-11197433.pdf?src-supplier=Avnet; ComponentLink8URL: https://datasheet.ciiva.com/11205/fmb3904-11205885.pdf?src-supplier=Avnet; ComponentLink8Description: https://datasheet.ciiva.com/11205/fmb3904-11205885.pdf?src-supplier=Avnet; ComponentLink9URL: https://datasheet.ciiva.com/6362/ffb3904-6362793.pdf?src-supplier=Digi-Key; ComponentLink9Description: https://datasheet.ciiva.com/6362/ffb3904-6362793.pdf?src-supplier=Digi-Key; ComponentLink10URL: https://datasheet.ciiva.com/46415/1785343-46415819.pdf?src-supplier=Element14; ComponentLink10Description: https://datasheet.ciiva.com/46415/1785343-46415819.pdf?src-supplier=Element14; Supplier Part Number 1: MMPQ3904FSCT-ND
footprint 16SOIC
pins: 1 C1, 2, 3, 4, 5, 6, 7, 8, 9, 10, 11, 12, 13, 14, 15, 16
text: Q4; Q3; Q2; Q1

## PPTC061LFBN-RC
designator J?, comment HEADER FEMALE 1X6 2.54mm
Female, 6 C, Straight, .100"CC; 3.20mm Tail, No Mt. 100u" Tin; PBT, Phos Bronze, 105 C; Manufacturer: Sullins; Manufacturer Part Number: PPTC061LFBN-RC; Supplier 1: Digi-Key; RoHS: Yes; Category: Connectors; Stock 1: 62927; Pricing 1: 1=0.52000, 10=0.44900, 80=0.37050, 440=0.32220, 1000=0.26582, 5000=0.23360, 10000=0.23270 (USD); ComponentLink1URL: https://media.digikey.com/pdf/Data%20Sheets/Sullins%20PDFs/Female_Headers.100_DS.pdf?src-supplier=Digi-Key; ComponentLink1Description: https://media.digikey.com/pdf/Data%20Sheets/Sullins%20PDFs/Female_Headers.100_DS.pdf?src-supplier=Digi-Key; ComponentLink2URL: http://www.sullinscorp.com/catalogs/78_Page80-81_HEADER_.100_2.54mm_FEMALE.pdf?src-supplier=Future+Electronics; ComponentLink2Description: http://www.sullinscorp.com/catalogs/78_Page80-81_HEADER_.100_2.54mm_FEMALE.pdf?src-supplier=Future+Electronics; Supplier Part Number 1: S7004-ND
footprint Header_Female_1x6_2.54mm
pins: 1, 2, 3, 4, 5, 6

## PR12-5V-360-1A
designator K?
Power Relay 5VDC 15A SPST-NO(19mm 15.5mm 15.8mm) THT; Manufacturer: CUI Devices; Supplier 1: Digi-Key; Manufacturer Part Number: PR12-5V-360-1A; RoHS: No; Category: Power Relays; Stock 1: 985; Pricing 1: 1=1.03000, 10=0.96900, 25=0.86080, 50=0.81800, 100=0.77490, 250=0.68880, 500=0.64576, 1000=0.60270, 5000=0.58118 (USD); Supplier Part Number 1: 2223-PR12-5V-360-1A-ND
footprint Relay_SPST
pins: 1, 2, 3, 4, 5

## QPC02SXGN-RC
designator LINK?, comment LINK  (mechanical)
2 Position 2.54 mm Centerline Single Circuit Open Top Jumper; Manufacturer: Sullins; Manufacturer Part Number: QPC02SXGN-RC; Supplier 1: Digi-Key; RoHS: Yes; Category: Connectors; Stock 1: 882398; Pricing 1: 1=0.10000, 10=0.05000, 25=0.04080, 50=0.03780, 100=0.03650, 250=0.03152, 500=0.03024, 2000=0.02520, 4000=0.02394 (USD); ComponentLink1URL: https://datasheet.ciiva.com/767/284-sxgn-11510-767869.pdf?src-supplier=Digi-Key; ComponentLink1Description: https://datasheet.ciiva.com/767/284-sxgn-11510-767869.pdf?src-supplier=Digi-Key; Supplier Part Number 1: S9337-ND

## RC0805FR-073K3L
designator R?, comment 3K3
Res Thick Film 0805 3.3K Ohm 1% 0.125W(1/8W) ±100ppm/C Pad SMD T/R; Manufacturer: Yageo; Manufacturer Part Number: RC0805FR-073K3L; Value: 3.3kR; Temperature Coefficient: 100ppm/°C; Power Rating: 125mW; Voltage Rating: 150V; Supplier 1: Digi-Key; RoHS: Yes; Category: Chip SMD Resistors; Stock 1: 2010065; Pricing 1: 1=0.10000, 10=0.03600, 100=0.01480, 1000=0.00666, 2500=0.00578 (USD); Case/Package: 0805; Case Code (Metric): 2012; Case Code (Imperial): 0805; Weight: 0.000194oz; Min Operating Temperature: -55°C; Max Operating Temperature: 155°C; Tolerance: 1%; Packaging: Tape and Reel; Resistor Type: Thick Film; Package Quantity: 1; Number of Terminations: 2; Termination: SMD/SMT; Max Power Dissipation: 125mW; Features: Moisture Resistant; Series: RC; Resistance Tolerance: 1%; Length: 0.079inch; Width: 0.049inch; Height: 0.024inch; Depth: 1.25mm; Lead Free: Lead Free; RoHS Compliant: Yes; ComponentLink1URL: https://datasheet.ciiva.com/46447/444164-46447579.pdf?src-supplier=Element14; ComponentLink1Description: https://datasheet.ciiva.com/46447/444164-46447579.pdf?src-supplier=Element14; ComponentLink2URL: https://datasheet.ciiva.com/2457/pyu-r-int-thick-7-2457993.pdf?src-supplier=Digi-Key; ComponentLink2Description: https://datasheet.ciiva.com/2457/pyu-r-int-thick-7-2457993.pdf?src-supplier=Digi-Key; ComponentLink3URL: https://datasheet.ciiva.com/2457/pyu-r-int-thick-7-2457994.pdf?src-supplier=Digi-Key; ComponentLink3Description: https://datasheet.ciiva.com/2457/pyu-r-int-thick-7-2457994.pdf?src-supplier=Digi-Key; ComponentLink4URL: https://datasheet.ciiva.com/2457/pyu-r-int-thick-7-2457992.pdf?src-supplier=Digi-Key; ComponentLink4Description: https://datasheet.ciiva.com/2457/pyu-r-int-thick-7-2457992.pdf?src-supplier=Digi-Key; ComponentLink5URL: https://datasheet.ciiva.com/12577/rc0805-12577341.pdf?src-supplier=Mouser; ComponentLink5Description: https://datasheet.ciiva.com/12577/rc0805-12577341.pdf?src-supplier=Mouser; ComponentLink6URL: https://datasheet.ciiva.com/7941/444164-7941782.pdf?src-supplier=Element14; ComponentLink6Description: https://datasheet.ciiva.com/7941/444164-7941782.pdf?src-supplier=Element14; ComponentLink7URL: https://datasheet.ciiva.com/7941/444164-7941783.pdf?src-supplier=Element14; ComponentLink7Description: https://datasheet.ciiva.com/7941/444164-7941783.pdf?src-supplier=Element14; ComponentLink8URL: https://datasheet.ciiva.com/16747/rc0805-16747115.pdf?src-supplier=Future+Electronics; ComponentLink8Description: https://datasheet.ciiva.com/16747/rc0805-16747115.pdf?src-supplier=Future+Electronics; Supplier Part Number 1: 311-3.30KCRCT-ND
footprint R0805
pins: 1, 2

## RC0805FR-0710KL
designator R?, comment 10K
Res Thick Film 0805 10K Ohm 1% 0.125W(1/8W) +/-100ppm/C Epoxy Pad SMD T/R; Manufacturer: Yageo; Manufacturer Part Number: RC0805FR-0710KL; Resistance: 10kR; Temperature Coefficient: 100ppm/°C; Power Rating: 125mW; Voltage Rating: 150V; Supplier 1: Digi-Key; RoHS: Yes; Category: Chip SMD Resistors; Stock 1: 11681830; Pricing 1: 1=0.10000, 10=0.03700, 100=0.01490, 1000=0.00669, 2500=0.00581 (USD); Case/Package: 0805; Case Code (Imperial): 0805; Case Code (Metric): 2012; Size Code: 0805; Min Operating Temperature: -55°C; Max Operating Temperature: 155°C; Packaging: Tape and Reel; Tolerance: 1%; Resistor Type: Thick Film; Package Quantity: 1; Termination: SMD/SMT; Number of Terminations: 2; Max Power Dissipation: 125mW; Features: Moisture Resistant; Series: RC; Construction: Rectangular; Resistance Tolerance: 1%; Technology: THICK FILM; Length: 0.079inch; Width: 0.049inch; Height: 0.024inch; Depth: 1.25mm; Lead Free: Lead Free; Military Standard: Not; RoHS Compliant: Yes; Supplier Part Number 1: 311-10.0KCRCT-ND
footprint R0805
pins: 1, 2

## RC0805FR-0722RL
designator R?, comment 22R
Res Thick Film 0805 22 Ohm 1% 0.125W(1/8W) ±100ppm/C Pad SMD T/R; Manufacturer: Yageo; Manufacturer Part Number: RC0805FR-0722RL; Temperature Coefficient: 100ppm/°C; Power Rating: 125mW; Voltage Rating: 150V; Supplier 1: Digi-Key; RoHS: Yes; Category: Chip SMD Resistors; Stock 1: 326034; Pricing 1: 1=0.10000, 10=0.03600, 100=0.01480, 1000=0.00666, 2500=0.00578 (USD); Case/Package: 0805; Case Code (Metric): 2012; Case Code (Imperial): 0805; Min Operating Temperature: -55°C; Max Operating Temperature: 155°C; Resistor Type: Thick Film; Resistance: 22R; Tolerance: 1%; Packaging: Tape and Reel; Package Quantity: 1; Number of Terminations: 2; Termination: SMD/SMT; Max Power Dissipation: 125mW; Working Voltage: 150V; Features: Moisture Resistant; Series: RC; Resistance Tolerance: 1%; Construction: Rectangular; Technology: THICK FILM; Length: 0.079inch; Width: 0.049inch; Height: 0.024inch; Depth: 1.25mm; Lead Free: Lead Free; RoHS Compliant: Yes; Military Standard: Not; ComponentLink1URL: https://datasheet.ciiva.com/11819/0900766b8106beab-11819837.pdf?src-supplier=RSComponents; ComponentLink1Description: https://datasheet.ciiva.com/11819/0900766b8106beab-11819837.pdf?src-supplier=RSComponents; ComponentLink2URL: https://datasheet.ciiva.com/46447/444164-46447574.pdf?src-supplier=Element14; ComponentLink2Description: https://datasheet.ciiva.com/46447/444164-46447574.pdf?src-supplier=Element14; ComponentLink3URL: https://datasheet.ciiva.com/2457/pyu-r-int-thick-7-2457045.pdf?src-supplier=Digi-Key; ComponentLink3Description: https://datasheet.ciiva.com/2457/pyu-r-int-thick-7-2457045.pdf?src-supplier=Digi-Key; ComponentLink4URL: https://datasheet.ciiva.com/2457/pyu-r-int-thick-7-2457046.pdf?src-supplier=Digi-Key; ComponentLink4Description: https://datasheet.ciiva.com/2457/pyu-r-int-thick-7-2457046.pdf?src-supplier=Digi-Key; ComponentLink5URL: https://datasheet.ciiva.com/2457/pyu-r-int-thick-7-2457044.pdf?src-supplier=Digi-Key; ComponentLink5Description: https://datasheet.ciiva.com/2457/pyu-r-int-thick-7-2457044.pdf?src-supplier=Digi-Key; ComponentLink6URL: https://datasheet.ciiva.com/12667/rc0805-12667371.pdf?src-supplier=Mouser; ComponentLink6Description: https://datasheet.ciiva.com/12667/rc0805-12667371.pdf?src-supplier=Mouser; Supplier Part Number 1: 311-22.0CRDKR-ND
footprint R0805
pins: 1, 2

## RC0805FR-07560RL
designator R?, comment 560R
Res General Purpose Thick Film 0805 560 Ohm 1% 1/8W ±100ppm/°C Molded Paper T/R; Manufacturer: Yageo; Manufacturer Part Number: RC0805FR-07560RL; Power Rating: 125mW; Voltage Rating: 150V; Supplier 1: Digi-Key; RoHS: Yes; Category: Chip SMD Resistors; Stock 1: 316002; Pricing 1: 1=0.10000, 10=0.03600, 100=0.01480, 1000=0.00666, 2500=0.00578 (USD); Case/Package: 0805; Case Code (Metric): 2012; Case Code (Imperial): 0805; Weight: 0.000194oz; Size Code: 0805; Min Operating Temperature: -55°C; Max Operating Temperature: 155°C; Tolerance: 1%; Resistance: 560R; Packaging: Cut Tape; Resistor Type: Thick Film; Temperature Coefficient: 100ppm/°C; Package Quantity: 1; Number of Terminations: 2; Termination: SMD/SMT; Max Power Dissipation: 125mW; Features: Moisture Resistant; Series: RC; Resistance Tolerance: 1%; Construction: Rectangular; Length: 0.079inch; Width: 0.049inch; Height: 0.024inch; Depth: 1.25mm; Lead Free: Lead Free; RoHS Compliant: Yes; Military Standard: Not; Supplier Part Number 1: 311-560CRCT-ND
footprint R0805
pins: 1, 2

## RC0805JR-13220RL
designator R?, comment 220
Res Thick Film 0805 220 Ohm 5% 0.125W(1/8W) ±100ppm/C Pad SMD T/R; Manufacturer: Yageo; Manufacturer Part Number: RC0805JR-13220RL; Resistance: 220R; Temperature Coefficient: 100ppm/°C; Power Rating: 125mW; Voltage Rating: 150V; Supplier 1: Digi-Key; RoHS: Yes; Category: Chip SMD Resistors; Stock 1: 20198; Pricing 1: 1=0.10000, 10=0.03100, 100=0.01280, 1000=0.00573, 2500=0.00497, 5000=0.00411 (USD); Case/Package: 0805; Contact Plating: Tin,Matte; Case Code (Imperial): 0805; Case Code (Metric): 2012; Min Operating Temperature: -55°C; Max Operating Temperature: 155°C; Tolerance: 5%; Resistor Type: Thick Film; Packaging: Tape and Reel; Termination: SMD/SMT; Series: RC; Construction: Rectangular; Length: 2mm; Width: 1.25mm; Height: 0.5mm; Depth: 1.25mm; Radiation Hardening: No; Military Standard: Not; RoHS Compliant: Yes; ComponentLink1URL: http://www.mouser.com/ds/2/447/Yageo_08112016_RC0805-968729.pdf?src-supplier=Mouser; ComponentLink1Description: http://www.mouser.com/ds/2/447/Yageo_08112016_RC0805-968729.pdf?src-supplier=Mouser; Supplier Part Number 1: 13-RC0805JR-13220RLCT-ND
footprint R0805
pins: 1, 2

## RNCF0805DTE120R
designator R?, comment 120R 0805
Res Thin Film 0805 120 Ohm 0.5% 1/10W ±25ppm/°C Molded SMD SMD Paper T/R; Manufacturer: Stackpole Electronics; Manufacturer Part Number: RNCF0805DTE120R; Supplier 1: Digi-Key; RoHS: Yes; Category: Chip SMD Resistors; Stock 1: 3905; Pricing 1: 1=0.14000, 10=0.11600, 100=0.04520, 1000=0.01890, 2500=0.01732 (USD); Mounting Technology: Surface Mount; Case/Package: 0805; Contact Plating: Tin,Matte; Min Operating Temperature: -55°C; Max Operating Temperature: 155°C; Temperature Coefficient: 25ppm/°C; Resistor Type: Thin Film; Packaging: Tape and Reel; Value: 120R; Tolerance: 0.5%; Radiation Hardening: No; ComponentLink1URL: https://www.seielect.com/catalog/sei-rncf.pdf?src-supplier=Digi-Key; ComponentLink1Description: https://www.seielect.com/catalog/sei-rncf.pdf?src-supplier=Digi-Key; ComponentLink2URL: https://www.seielect.com/Catalog/SEI-rncf.pdf?src-supplier=Avnet; ComponentLink2Description: https://www.seielect.com/Catalog/SEI-rncf.pdf?src-supplier=Avnet; Supplier Part Number 1: 738-RNCF0805DTE120RCT-ND
footprint R0805
pins: 1, 2

## RNCP0805FTD1K00
designator R?, comment 1K
Res Thin Film 0805 1K Ohm 1% 0.25W(1/4W) ±100ppm/C Sulfur Resistant Pad SMD T/R; Manufacturer: Stackpole Electronics; Manufacturer Part Number: RNCP0805FTD1K00; Resistance: 1kR; Power Rating: 250mW; Temperature Coefficient: 100ppm/°C; Supplier 1: Digi-Key; RoHS: Yes; Category: Chip SMD Resistors; Stock 1: 359931; Pricing 1: 1=0.10000, 10=0.07300, 100=0.02970, 1000=0.01336, 2500=0.01159 (USD); Mount: Surface Mount; Case/Package: 0805; Case Code (Metric): 2012; Case Code (Imperial): 0805; Size Code: 0805; Min Operating Temperature: -55°C; Max Operating Temperature: 155°C; Tolerance: 1%; Packaging: Tape and Reel; Resistor Type: Thin Film; Number of Terminations: 2; Max Power Dissipation: 250mW; Features: Moisture Resistant,Anti-Sulfur; Series: RNCP; Length: 0.079inch; Width: 0.049inch; Height: 0.024inch; Lead Free: Lead Free; RoHS Compliant: Yes; ComponentLink1URL: http://www.seielect.com/Catalog/SEI-rncp.pdf?src-supplier=Future+Electronics; ComponentLink1Description: http://www.seielect.com/Catalog/SEI-rncp.pdf?src-supplier=Future+Electronics; ComponentLink2URL: https://www.seielect.com/Catalog/SEI-rncp.pdf?src-supplier=Digi-Key; ComponentLink2Description: https://www.seielect.com/Catalog/SEI-rncp.pdf?src-supplier=Digi-Key; ComponentLink3URL: https://www.seielect.com/catalog/SEI-Packaging.pdf?src-supplier=Digi-Key; ComponentLink3Description: https://www.seielect.com/catalog/SEI-Packaging.pdf?src-supplier=Digi-Key; Supplier Part Number 1: RNCP0805FTD1K00CT-ND
footprint R0805
pins: 1, 2

## SDR03EZPJ121
designator R?, comment 120R
Res Thick Film 0603 120 Ohm 5% 0.3W ±200ppm/C Pad SMD Automotive T/R; Manufacturer: Rohm; Manufacturer Part Number: SDR03EZPJ121; Supplier 1: Digi-Key; RoHS: Yes; Category: Chip SMD Resistors; Stock 1: 1602; Pricing 1: 1=0.10000, 10=0.09400, 100=0.03600, 1000=0.01586, 2500=0.01370 (USD); ComponentLink1URL: https://www.rohm.com/datasheet/SDR03EZPJ/sdr-e?src-supplier=Digi-Key; ComponentLink1Description: https://www.rohm.com/datasheet/SDR03EZPJ/sdr-e?src-supplier=Digi-Key; Supplier Part Number 1: 511-1735-1-ND
footprint R0603
pins: 1, 2

## SDR03EZPJ391
designator R?, comment 390R
Resistor High Anti-Surge Thick Film 0603 390 Ohm 5% 3/10W ±200ppm/℃ Molded SMD Paper T/R; Manufacturer: Rohm; Manufacturer Part Number: SDR03EZPJ391; Supplier 1: Digi-Key; RoHS: No; Category: Chip SMD Resistors; Stock 1: 10000; Pricing 1: 1=0.10000, 10=0.09400, 100=0.03600, 1000=0.01586, 2500=0.01370 (USD); Supplier Part Number 1: 511-SDR03EZPJ391CT-ND
pins: 1, 2

## SRR4828A-3R9Y
designator L?, comment 3u9
Inductor Power Shielded Wirewound 3.9uH 30% 100KHz Ferrite 3.4A 0.047Ohm DCR Automotive T/R; Manufacturer: Bourns; Manufacturer Part Number: SRR4828A-3R9Y; Value: 15uH; Tolerance: 20%; Current Rating: 1.8A; Saturation Current: 920mA; DC Resistance (DCR): 145mR; Self Resonant Frequency: 25MHz; Supplier 1: Digi-Key; RoHS: Yes; Category: Fixed Inductors; Stock 1: 859; Pricing 1: 1=1.02000, 10=0.89600, 25=0.83240, 50=0.70420, 100=0.64020, 250=0.60184 (USD); Mounting Technology: Surface Mount; Case/Package: Nonstandard; Core Material: Ferrite; Min Operating Temperature: -40°C; Max Operating Temperature: 150°C; Resistor Type: Wirewound; Packaging: Cut Tape; Shielding: Shielded; Test Frequency: 100kHz; Ratings: AEC-Q200; RoHS Compliant: Yes; ComponentLink1URL: http://www.farnell.com/datasheets/2339105.pdf?src-supplier=Farnell; ComponentLink1Description: http://www.farnell.com/datasheets/2339105.pdf?src-supplier=Farnell; ComponentLink2URL: https://www.bourns.com/docs/Product-Datasheets/SRR4828A.pdf?src-supplier=Digi-Key; ComponentLink2Description: https://www.bourns.com/docs/Product-Datasheets/SRR4828A.pdf?src-supplier=Digi-Key; Supplier Part Number 1: SRR4828A-3R9YCT-ND
footprint 3u9_IND_NON_STANDARD
pins: 1, 2

## SRR4828A-4R7Y
designator L?, comment 4u7
Inductor Power Shielded Wirewound 4.7uH 30% 100KHz Ferrite 3A 0.054Ohm DCR Automotive T/R; Manufacturer: Bourns; Manufacturer Part Number: SRR4828A-4R7Y; Saturation Current: 1.6A; DC Resistance (DCR): 54mR; Self Resonant Frequency: 50MHz; Supplier 1: Digi-Key; RoHS: Yes; Category: Fixed Inductors; Stock 1: 2297; Pricing 1: 1=1.02000, 10=0.89600, 25=0.83240, 50=0.70420, 100=0.64020, 250=0.60184 (USD); Mounting Technology: Surface Mount; Case/Package: Nonstandard; Core Material: Ferrite; Min Operating Temperature: -40°C; Max Operating Temperature: 150°C; Resistor Type: Wirewound; Packaging: Cut Tape; Value: 4.7uH; Tolerance: 30%; Current Rating: 3A; Shielding: Shielded; Test Frequency: 100kHz; Ratings: AEC-Q200; RoHS Compliant: Yes; ComponentLink1URL: https://www.bourns.com/docs/Product-Datasheets/SRR4828A.pdf?src-supplier=Digi-Key; ComponentLink1Description: https://www.bourns.com/docs/Product-Datasheets/SRR4828A.pdf?src-supplier=Digi-Key; Supplier Part Number 1: SRR4828A-4R7YCT-ND
footprint 4u7_IND_NON_STANDARD
pins: 1, 2

## SS13HE
designator D?
SS13HE Series 30 V 1 A Surface Mount Schottky Barrier Rectifier - SOD-323HE; Manufacturer: ON Semiconductor / Fairchild; Average Rectified Current: 1A; Max Reverse Voltage (DC): 30V; Element Configuration: Single; Reverse Recovery Time: 5.6ns; Max Forward Surge Current (Ifsm): 25A; Supplier 1: Digi-Key; Manufacturer Part Number: SS13HE; RoHS: No; Category: Schottky Diodes; Stock 1: 1894; Pricing 1: 1=0.42000, 10=0.34100, 100=0.23240, 500=0.17426, 1000=0.13070 (USD); Mounting Technology: Surface Mount; Case/Package: SMD/SMT; Weight: 0.006g; Packaging: Tape and Reel; Max Repetitive Reverse Voltage (Vrrm): 30V; RoHS Compliant: No; ComponentLink1URL: https://www.fairchildsemi.com/datasheets/SS/SS13HE.pdf?src-supplier=Digi-Key; ComponentLink1Description: https://www.fairchildsemi.com/datasheets/SS/SS13HE.pdf?src-supplier=Digi-Key; Supplier Part Number 1: SS13HECT-ND
footprint SOD323HE
pins: 1 Cathode, 2 Anode

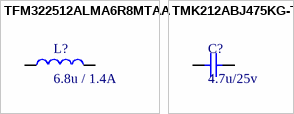
[diagram p1: symbols TFM322512ALMA6R8MTAA to TMK212ABJ475KG-T]

## TFM322512ALMA6R8MTAA
designator L?, comment 6.8u / 1.4A
Inductor Power Shielded Thin Film 6.8uH 20% 1MHz Metal 1.4A 0.26Ohm DCR 1210 Automotive T/R; Manufacturer: TDK; Manufacturer Part Number: TFM322512ALMA6R8MTAA; Supplier 1: Digi-Key; RoHS: Yes; Category: Fixed Inductors; Stock 1: 3686; Pricing 1: 1=0.97000, 10=0.90300, 25=0.83360, 50=0.69460, 100=0.65290, 250=0.58348, 500=0.50014, 1000=0.44456 (USD); Supplier Part Number 1: 445-TFM322512ALMA6R8MTAACT-ND
footprint C1210_IND
pins: 1, 2

## TMK212ABJ475KG-T
designator C?, comment 4.7u/25v
Multilayer Ceramic Capacitors (High dielectric type), 25V, 4.7 uF, ± 10 %, 0805, X5R, RoHS; Manufacturer: Taiyo Yuden; Manufacturer Part Number: TMK212ABJ475KG-T; Value: 4.7uF; Tolerance: 10%; Supplier 1: Digi-Key; RoHS: Yes; Category: Ceramic Capacitors; Stock 1: 38178; Pricing 1: 1=0.17000, 10=0.11800, 50=0.06680, 100=0.05540, 500=0.03882, 1000=0.03213 (USD); Mounting Technology: Surface Mount; Case/Package: Ceramic; Contact Plating: Tin; Min Operating Temperature: -55°C; Max Operating Temperature: 85°C; Dielectric: X5R; Termination: Wraparound; Length: 2mm; RoHS Compliant: Yes; ComponentLink1URL: http://www.farnell.com/datasheets/2819920.pdf?src-supplier=Farnell; ComponentLink1Description: http://www.farnell.com/datasheets/2819920.pdf?src-supplier=Farnell; ComponentLink2URL: http://www.farnell.com/datasheets/2819920.pdf?src-supplier=Newark; ComponentLink2Description: http://www.farnell.com/datasheets/2819920.pdf?src-supplier=Newark; ComponentLink3URL: https://ds.yuden.co.jp/TYCOMPAS/ut/detail?pn=TMK212ABJ475KG-T&amp;u=M&src-supplier=Digi-Key; ComponentLink3Description: https://ds.yuden.co.jp/TYCOMPAS/ut/detail?pn=TMK212ABJ475KG-T&amp;u=M&src-supplier=Digi-Key; Supplier Part Number 1: 587-5478-1-ND
footprint C0805
pins: 1, 2